# EAGLE library part SN65LVDS180 (library SN65LVDS180)
High-Speed Differential Line Drivers and Receivers
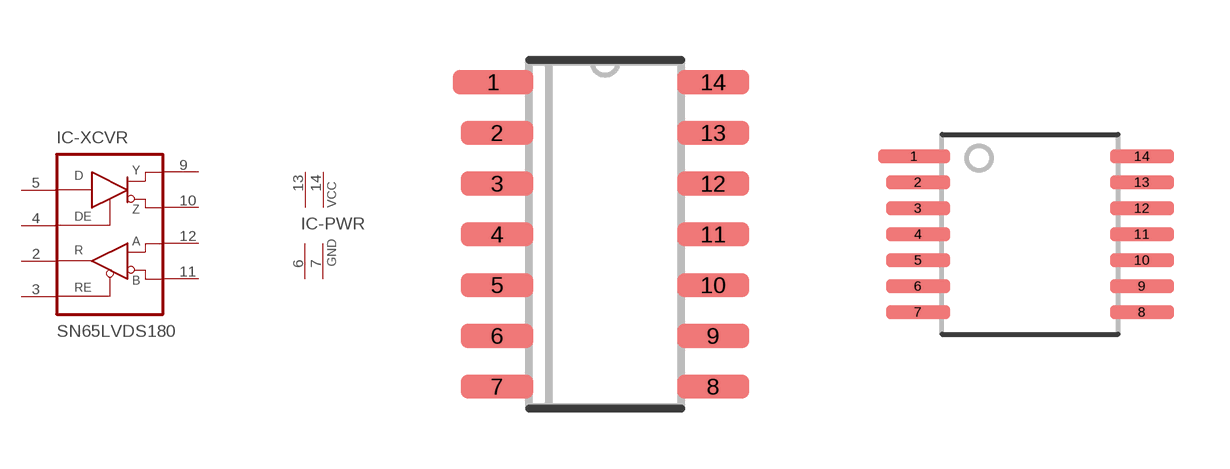
[diagram p0: symbol with the pads of SOIC14; footprints SOIC14, R-PDSO-G14]

Designator prefix IC; gates -XCVR=SN65LVDS1 -PWR=2PWR2GND

## SN65LVDS180D  [SOIC14]
2  -XCVR:R  out
3  -XCVR:RE  in
4  -XCVR:DE  in
5  -XCVR:D  in
6  -PWR:GND  pwr
7  -PWR:GND  pwr
9  -XCVR:Y  out
10  -XCVR:Z  out
11  -XCVR:B  in
12  -XCVR:A  in
13  -PWR:VCC  pwr
14  -PWR:VCC  pwr

## SN65LVDS180PW  [R-PDSO-G14]
Pads as for SOIC14

## Footprint SOIC14 (pad centres in mm)
SOIC-14
smd 2 x 0.6: 1 -2.8,3.81
smd 1.8 x 0.6: 2 -2.7,2.54; 3 -2.7,1.27; 4 -2.7,0; 5 -2.7,-1.27; 6 -2.7,-2.54; 7 -2.7,-3.81; 8 2.7,-3.81; 9 2.7,-2.54; 10 2.7,-1.27; 11 2.7,0; 12 2.7,1.27; 13 2.7,2.54; 14 2.7,3.81

## Footprint R-PDSO-G14 (pad centres in mm)
TI TSSOP14 package
smd 1.8 x 0.35: 1 -2.9,1.95
smd 1.6 x 0.35: 2 -2.8,1.3; 3 -2.8,0.65; 4 -2.8,0; 5 -2.8,-0.65; 6 -2.8,-1.3; 7 -2.8,-1.95; 8 2.8,-1.95; 9 2.8,-1.3; 10 2.8,-0.65; 11 2.8,0; 12 2.8,0.65; 13 2.8,1.3; 14 2.8,1.95